# Altium integrated library TI Data Converters Analog to Digital Converter.IntLib: 2197 symbols (part 7 of 168)
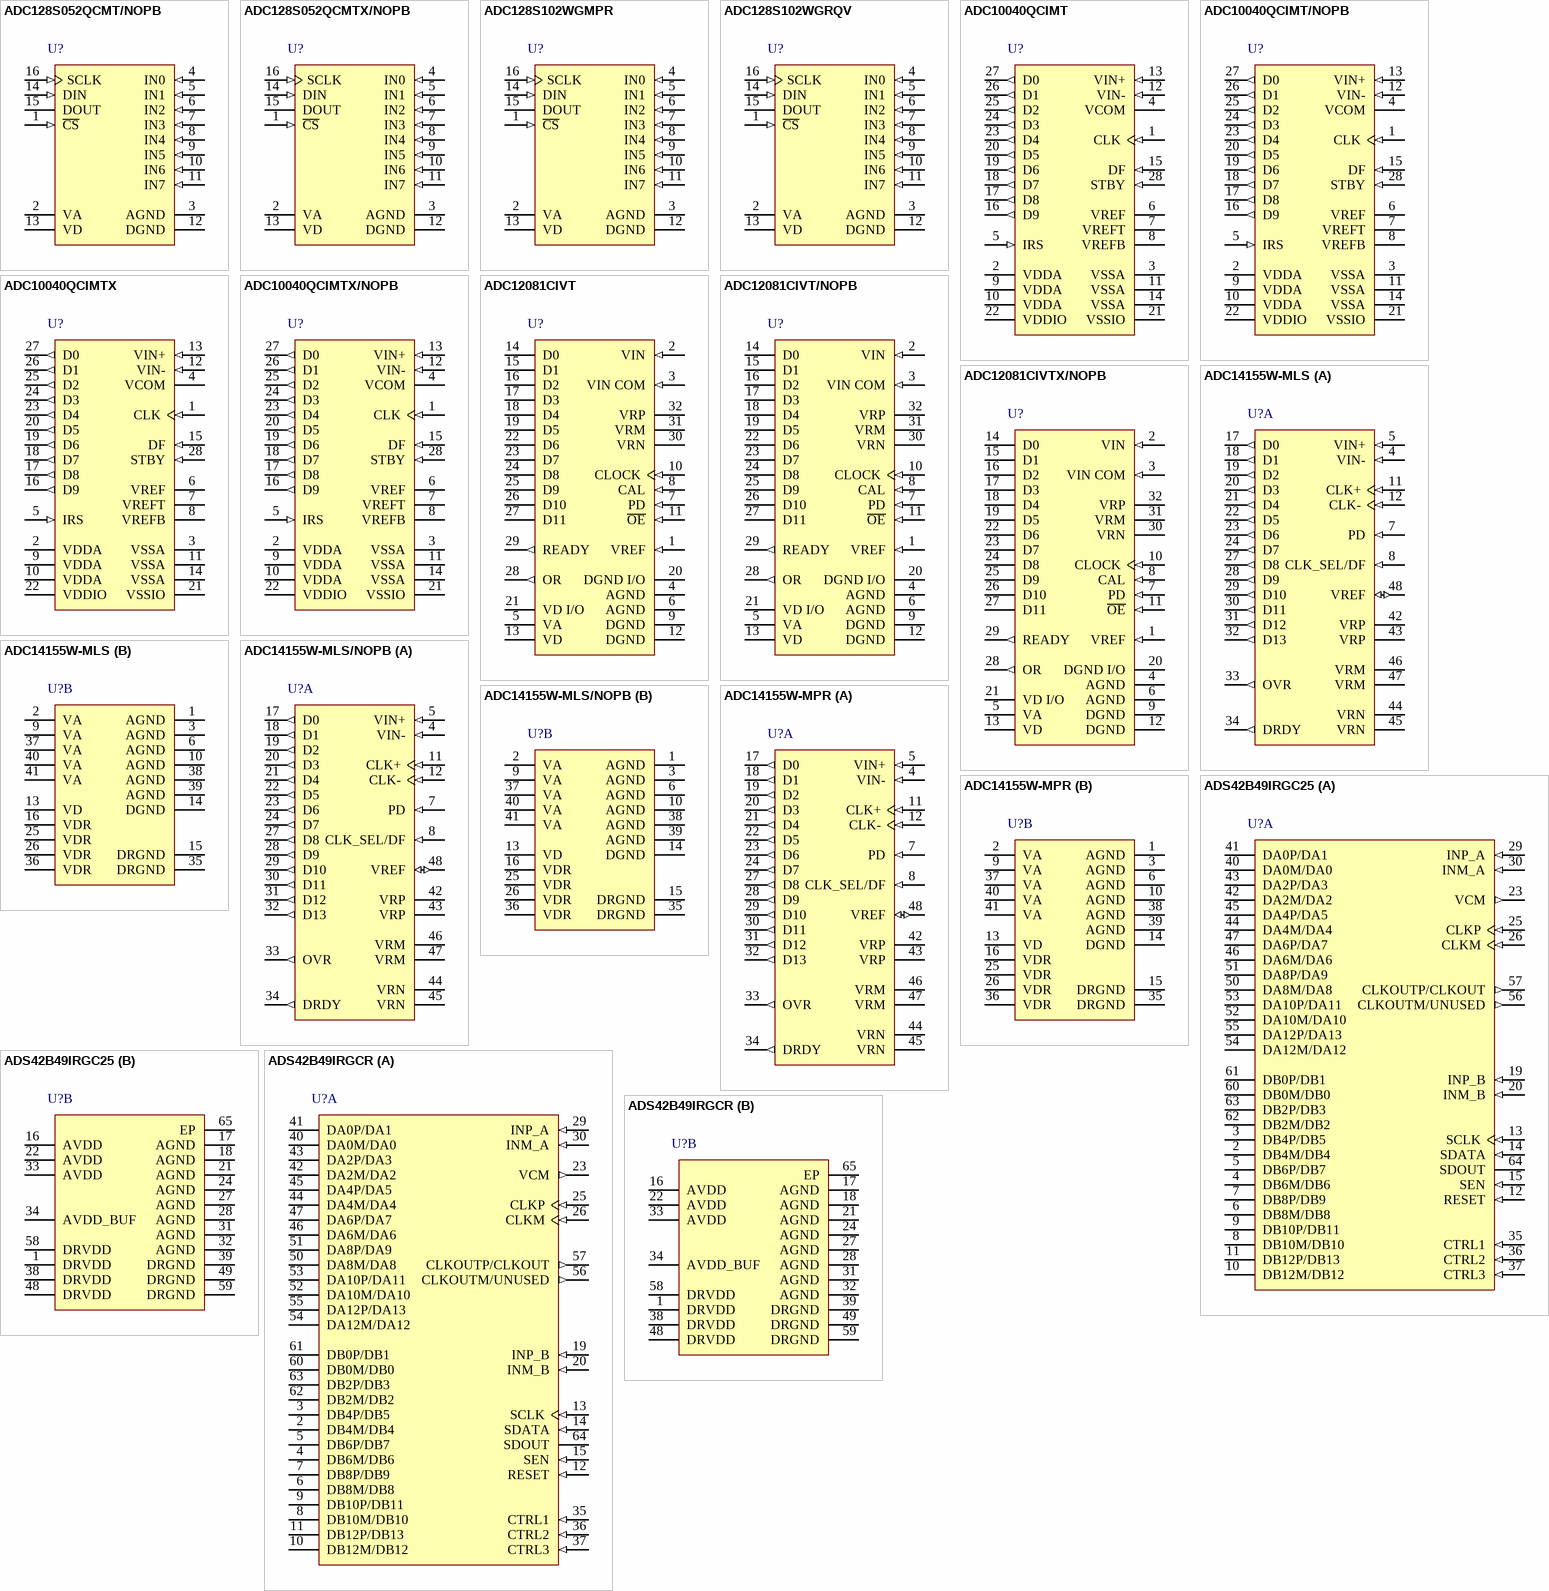
[diagram p132: symbols ADC128S052QCMT/NOPB to ADS42B49IRGCR]

## ADC10040QCIMT
designator U?
10-Bit, 40 MSPS, 3 V, 55.5 mW ADC, -40 to 85 degC, 28-pin SOP (PW28); Manufacturer: Texas Instruments; PartNumber: ADC10040QCIMT; # Input Channels: 1; Analog Voltage AV/DD(Max)(V): 3.6; Analog Voltage AV/DD(Min)(V): 2.7; Architecture: Pipeline; Digital Supply(Min)(V): 2.5; ENOB(Bits): 9.6; Resolution(Bits): 10; Sample Rate(max)(SPS): 40M; SFDR(dB): 80; SINAD(dB): 59.4; SNR(dB): 59.5; SubFamily: High Speed ADC (>10MSPS); DatasheetVersion: SNAS224M; PackageVersion: 4040064-7/G, 02/2011; PackageReference: PW28; PackageDescription: 28-Pin Plastic Small Outline, Body 9.7 x 4.4 mm, Pitch 0.65 mm; Supplier 1: Digi-Key; Supplier Part Number 1: ADS7868IDBVTG4-ND; Supplier 2: Farnell; Supplier Part Number 2: 1329579; Supplier 3: Newark; Supplier Part Number 3: 61M4826; Supplier 4: Mouser; Supplier Part Number 4: 595-ADS7868IDBVTG4; Digital Supply(Max)(V): 3.6; INL(Max)(+/-LSB): 1; Mounting Technology: Surface Mount; Code_JEDEC: MO-153; ComponentLink1Description: Manufacturer URL; ComponentLink1URL: http://www.ti.com/; ComponentLink2Description: Datasheet; ComponentLink2URL: http://www.ti.com/lit/ds/symlink/adc10040-q1.pdf; ComponentLink3Description: Package Specification; ComponentLink3URL: http://www.ti.com/litv/pdf/mpds364
footprint TI-PW28_N (SOP, 28-Leads, Body 9.7x4.4mm, Pitch 0.65mm, IPC Medium Density)
footprint TI-PW28_L (SOP, 28-Leads, Body 9.7x4.4mm, Pitch 0.65mm, IPC High Density)
footprint TI-PW28_M (SOP, 28-Leads, Body 9.7x4.4mm, Pitch 0.65mm, IPC Low Density)
pins: 1 CLK (in) "Digital clock input. The range of frequencies for this input is 20 MHz to 40 MHz. The input is sampled on the rising edge of this input.", 2 VDDA (power) "Positive analog supply pins. These pins should be connected to a quiet 3,0V source and bypassed to analog ground with a 0.1 uf monolithic capacitor located within 1 cm of these pins. A 4.7 uF capacitor should also be used in (See Datasheet)", 3 VSSA (power) "Ground return for the analog supply.", 4 VCOM "These pins are high impedance reference bypass pins only. Connect a 0.1 uF capacitor from each of these pins to VSSA. These pins should not be loaded. VCOM may be used to set the input common mode voltage VCM.", 5 IRS (in) "IRS = “VDDA” 2.0 VP-P input range. IRS = “VSSA” 1.5 VP-P input range. IRS = “Floating” 1.0 VP-P input range. If using both VIN+ and VIN- pins, (or differential mode), then the peak-to-peak voltage re(See Datasheet)", 6 VREF "Reference Voltage. This device provides an internal 1.2V reference. This pin should be bypassed to VSSA with a 0.1 uF monolithic capacitor. VREF is 1.20V nominal. This pin may be driven by a 1.20V external reference if (See Datasheet)", 7 VREFT "These pins are high impedance reference bypass pins only. Connect a 0.1 uF capacitor from each of these pins to VSSA. These pins should not be loaded. VCOM may be used to set the input common mode voltage VCM.", 8 VREFB "These pins are high impedance reference bypass pins only. Connect a 0.1 uF capacitor from each of these pins to VSSA. These pins should not be loaded. VCOM may be used to set the input common mode voltage VCM.", 9 VDDA (power) "Positive analog supply pins. These pins should be connected to a quiet 3,0V source and bypassed to analog ground with a 0.1 uf monolithic capacitor located within 1 cm of these pins. A 4.7 uF capacitor should also be used in (See Datasheet)", 10 VDDA (power) "Positive analog supply pins. These pins should be connected to a quiet 3,0V source and bypassed to analog ground with a 0.1 uf monolithic capacitor located within 1 cm of these pins. A 4.7 uF capacitor should also be used in (See Datasheet)", 11 VSSA (power) "Ground return for the analog supply.", 12 VIN- (in) "Inverting analog input signal. With a 1.2V reference the full-scale input signal level is a differential 1.0 VP-P. This pin may be tied to VCOM (pin 4) for single-ended operation.", 13 VIN+ (in) "Non-inverting analog input signal. With a 1.2V reference the fullscale input signal level is a differential 1.0 VP-P.", 14 VSSA (power) "Ground return for the analog supply.", 15 DF (in) "DF = “1” Two’s Complement DF = “0” Offset Binary", 16 D9 (out) "Digital output data. D0 is the LSB and D9 is the MSB of the binary output word.", 17 D8 (out) "Digital output data. D0 is the LSB and D9 is the MSB of the binary output word.", 18 D7 (out) "Digital output data. D0 is the LSB and D9 is the MSB of the binary output word.", 19 D6 (out) "Digital output data. D0 is the LSB and D9 is the MSB of the binary output word.", 20 D5 (out) "Digital output data. D0 is the LSB and D9 is the MSB of the binary output word.", 21 VSSIO (power) "The ground return for the digital supply for the output drivers. This pin should be connected to the ground plane, but not near the analog circuitry.", 22 VDDIO (power) "Positive digital supply pins for the ADC10040’s output drivers. This pin should be bypassed to digital ground with a 0.1 uF monolithic capacitor located within 1 cm of this pin. A 4.7 uF capacitor should also be used i(See Datasheet)", 23 D4 (out) "Digital output data. D0 is the LSB and D9 is the MSB of the binary output word.", 24 D3 (out) "Digital output data. D0 is the LSB and D9 is the MSB of the binary output word.", 25 D2 (out) "Digital output data. D0 is the LSB and D9 is the MSB of the binary output word.", 26 D1 (out) "Digital output data. D0 is the LSB and D9 is the MSB of the binary output word.", 27 D0 (out) "Digital output data. D0 is the LSB and D9 is the MSB of the binary output word.", 28 STBY (in) "This is the standby pin. When high, this pin sets the converter into standby mode. When this pin is low, the converter is in active mode."

## ADC10040QCIMT/NOPB
designator U?
10-Bit, 40 MSPS, 3 V, 55.5 mW ADC, -40 to 85 degC, 28-pin SOP (PW28), Green (RoHS & no Sb/Br); Manufacturer: Texas Instruments; PartNumber: ADC10040QCIMT/NOPB; # Input Channels: 1; Analog Voltage AV/DD(Max)(V): 3.6; Analog Voltage AV/DD(Min)(V): 2.7; Architecture: Pipeline; Digital Supply(Min)(V): 2.5; ENOB(Bits): 9.6; Resolution(Bits): 10; Sample Rate(max)(SPS): 40M; SFDR(dB): 80; SINAD(dB): 59.4; SNR(dB): 59.5; SubFamily: High Speed ADC (>10MSPS); DatasheetVersion: SNAS224M; PackageVersion: 4040064-7/G, 02/2011; PackageReference: PW28; PackageDescription: 28-Pin Plastic Small Outline, Body 9.7 x 4.4 mm, Pitch 0.65 mm; Supplier 1: Digi-Key; Supplier Part Number 1: ADS7867IDBVR-ND; Supplier 2: Newark; Supplier Part Number 2: 43K2916; Supplier 3: Mouser; Supplier Part Number 3: 595-ADS7867IDBVR; Digital Supply(Max)(V): 3.6; Eco-Plan: Green (RoHS & no Sb/Br); INL(Max)(+/-LSB): 1; Mounting Technology: Surface Mount; Code_JEDEC: MO-153; ComponentLink1Description: Manufacturer URL; ComponentLink1URL: http://www.ti.com/; ComponentLink2Description: Datasheet; ComponentLink2URL: http://www.ti.com/lit/ds/symlink/adc10040-q1.pdf; ComponentLink3Description: Package Specification; ComponentLink3URL: http://www.ti.com/litv/pdf/mpds364
footprint TI-PW28_N (SOP, 28-Leads, Body 9.7x4.4mm, Pitch 0.65mm, IPC Medium Density)
footprint TI-PW28_L (SOP, 28-Leads, Body 9.7x4.4mm, Pitch 0.65mm, IPC High Density)
footprint TI-PW28_M (SOP, 28-Leads, Body 9.7x4.4mm, Pitch 0.65mm, IPC Low Density)
pins: 1 CLK (in) "Digital clock input. The range of frequencies for this input is 20 MHz to 40 MHz. The input is sampled on the rising edge of this input.", 2 VDDA (power) "Positive analog supply pins. These pins should be connected to a quiet 3,0V source and bypassed to analog ground with a 0.1 uf monolithic capacitor located within 1 cm of these pins. A 4.7 uF capacitor should also be used in (See Datasheet)", 3 VSSA (power) "Ground return for the analog supply.", 4 VCOM "These pins are high impedance reference bypass pins only. Connect a 0.1 uF capacitor from each of these pins to VSSA. These pins should not be loaded. VCOM may be used to set the input common mode voltage VCM.", 5 IRS (in) "IRS = “VDDA” 2.0 VP-P input range. IRS = “VSSA” 1.5 VP-P input range. IRS = “Floating” 1.0 VP-P input range. If using both VIN+ and VIN- pins, (or differential mode), then the peak-to-peak voltage re(See Datasheet)", 6 VREF "Reference Voltage. This device provides an internal 1.2V reference. This pin should be bypassed to VSSA with a 0.1 uF monolithic capacitor. VREF is 1.20V nominal. This pin may be driven by a 1.20V external reference if (See Datasheet)", 7 VREFT "These pins are high impedance reference bypass pins only. Connect a 0.1 uF capacitor from each of these pins to VSSA. These pins should not be loaded. VCOM may be used to set the input common mode voltage VCM.", 8 VREFB "These pins are high impedance reference bypass pins only. Connect a 0.1 uF capacitor from each of these pins to VSSA. These pins should not be loaded. VCOM may be used to set the input common mode voltage VCM.", 9 VDDA (power) "Positive analog supply pins. These pins should be connected to a quiet 3,0V source and bypassed to analog ground with a 0.1 uf monolithic capacitor located within 1 cm of these pins. A 4.7 uF capacitor should also be used in (See Datasheet)", 10 VDDA (power) "Positive analog supply pins. These pins should be connected to a quiet 3,0V source and bypassed to analog ground with a 0.1 uf monolithic capacitor located within 1 cm of these pins. A 4.7 uF capacitor should also be used in (See Datasheet)", 11 VSSA (power) "Ground return for the analog supply.", 12 VIN- (in) "Inverting analog input signal. With a 1.2V reference the full-scale input signal level is a differential 1.0 VP-P. This pin may be tied to VCOM (pin 4) for single-ended operation.", 13 VIN+ (in) "Non-inverting analog input signal. With a 1.2V reference the fullscale input signal level is a differential 1.0 VP-P.", 14 VSSA (power) "Ground return for the analog supply.", 15 DF (in) "DF = “1” Two’s Complement DF = “0” Offset Binary", 16 D9 (out) "Digital output data. D0 is the LSB and D9 is the MSB of the binary output word.", 17 D8 (out) "Digital output data. D0 is the LSB and D9 is the MSB of the binary output word.", 18 D7 (out) "Digital output data. D0 is the LSB and D9 is the MSB of the binary output word.", 19 D6 (out) "Digital output data. D0 is the LSB and D9 is the MSB of the binary output word.", 20 D5 (out) "Digital output data. D0 is the LSB and D9 is the MSB of the binary output word.", 21 VSSIO (power) "The ground return for the digital supply for the output drivers. This pin should be connected to the ground plane, but not near the analog circuitry.", 22 VDDIO (power) "Positive digital supply pins for the ADC10040’s output drivers. This pin should be bypassed to digital ground with a 0.1 uF monolithic capacitor located within 1 cm of this pin. A 4.7 uF capacitor should also be used i(See Datasheet)", 23 D4 (out) "Digital output data. D0 is the LSB and D9 is the MSB of the binary output word.", 24 D3 (out) "Digital output data. D0 is the LSB and D9 is the MSB of the binary output word.", 25 D2 (out) "Digital output data. D0 is the LSB and D9 is the MSB of the binary output word.", 26 D1 (out) "Digital output data. D0 is the LSB and D9 is the MSB of the binary output word.", 27 D0 (out) "Digital output data. D0 is the LSB and D9 is the MSB of the binary output word.", 28 STBY (in) "This is the standby pin. When high, this pin sets the converter into standby mode. When this pin is low, the converter is in active mode."

## ADC10040QCIMTX
designator U?
10-Bit, 40 MSPS, 3 V, 55.5 mW ADC, -40 to 85 degC, 28-pin SOP (PW28); Manufacturer: Texas Instruments; PartNumber: ADC10040QCIMTX; # Input Channels: 1; Analog Voltage AV/DD(Max)(V): 3.6; Analog Voltage AV/DD(Min)(V): 2.7; Architecture: Pipeline; Digital Supply(Min)(V): 2.5; ENOB(Bits): 9.6; Resolution(Bits): 10; Sample Rate(max)(SPS): 40M; SFDR(dB): 80; SINAD(dB): 59.4; SNR(dB): 59.5; SubFamily: High Speed ADC (>10MSPS); DatasheetVersion: SNAS224M; PackageVersion: 4040064-7/G, 02/2011; PackageReference: PW28; PackageDescription: 28-Pin Plastic Small Outline, Body 9.7 x 4.4 mm, Pitch 0.65 mm; Supplier 1: Digi-Key; Supplier Part Number 1: ADS7867IDBVRG4-ND; Supplier 2: Newark; Supplier Part Number 2: 53K9152; Supplier 3: Mouser; Supplier Part Number 3: 595-ADS7867IDBVRG4; Digital Supply(Max)(V): 3.6; INL(Max)(+/-LSB): 1; Mounting Technology: Surface Mount; Code_JEDEC: MO-153; ComponentLink1Description: Manufacturer URL; ComponentLink1URL: http://www.ti.com/; ComponentLink2Description: Datasheet; ComponentLink2URL: http://www.ti.com/lit/ds/symlink/adc10040-q1.pdf; ComponentLink3Description: Package Specification; ComponentLink3URL: http://www.ti.com/litv/pdf/mpds364
footprint TI-PW28_N (SOP, 28-Leads, Body 9.7x4.4mm, Pitch 0.65mm, IPC Medium Density)
footprint TI-PW28_L (SOP, 28-Leads, Body 9.7x4.4mm, Pitch 0.65mm, IPC High Density)
footprint TI-PW28_M (SOP, 28-Leads, Body 9.7x4.4mm, Pitch 0.65mm, IPC Low Density)
pins: 1 CLK (in) "Digital clock input. The range of frequencies for this input is 20 MHz to 40 MHz. The input is sampled on the rising edge of this input.", 2 VDDA (power) "Positive analog supply pins. These pins should be connected to a quiet 3,0V source and bypassed to analog ground with a 0.1 uf monolithic capacitor located within 1 cm of these pins. A 4.7 uF capacitor should also be used in (See Datasheet)", 3 VSSA (power) "Ground return for the analog supply.", 4 VCOM "These pins are high impedance reference bypass pins only. Connect a 0.1 uF capacitor from each of these pins to VSSA. These pins should not be loaded. VCOM may be used to set the input common mode voltage VCM.", 5 IRS (in) "IRS = “VDDA” 2.0 VP-P input range. IRS = “VSSA” 1.5 VP-P input range. IRS = “Floating” 1.0 VP-P input range. If using both VIN+ and VIN- pins, (or differential mode), then the peak-to-peak voltage re(See Datasheet)", 6 VREF "Reference Voltage. This device provides an internal 1.2V reference. This pin should be bypassed to VSSA with a 0.1 uF monolithic capacitor. VREF is 1.20V nominal. This pin may be driven by a 1.20V external reference if (See Datasheet)", 7 VREFT "These pins are high impedance reference bypass pins only. Connect a 0.1 uF capacitor from each of these pins to VSSA. These pins should not be loaded. VCOM may be used to set the input common mode voltage VCM.", 8 VREFB "These pins are high impedance reference bypass pins only. Connect a 0.1 uF capacitor from each of these pins to VSSA. These pins should not be loaded. VCOM may be used to set the input common mode voltage VCM.", 9 VDDA (power) "Positive analog supply pins. These pins should be connected to a quiet 3,0V source and bypassed to analog ground with a 0.1 uf monolithic capacitor located within 1 cm of these pins. A 4.7 uF capacitor should also be used in (See Datasheet)", 10 VDDA (power) "Positive analog supply pins. These pins should be connected to a quiet 3,0V source and bypassed to analog ground with a 0.1 uf monolithic capacitor located within 1 cm of these pins. A 4.7 uF capacitor should also be used in (See Datasheet)", 11 VSSA (power) "Ground return for the analog supply.", 12 VIN- (in) "Inverting analog input signal. With a 1.2V reference the full-scale input signal level is a differential 1.0 VP-P. This pin may be tied to VCOM (pin 4) for single-ended operation.", 13 VIN+ (in) "Non-inverting analog input signal. With a 1.2V reference the fullscale input signal level is a differential 1.0 VP-P.", 14 VSSA (power) "Ground return for the analog supply.", 15 DF (in) "DF = “1” Two’s Complement DF = “0” Offset Binary", 16 D9 (out) "Digital output data. D0 is the LSB and D9 is the MSB of the binary output word.", 17 D8 (out) "Digital output data. D0 is the LSB and D9 is the MSB of the binary output word.", 18 D7 (out) "Digital output data. D0 is the LSB and D9 is the MSB of the binary output word.", 19 D6 (out) "Digital output data. D0 is the LSB and D9 is the MSB of the binary output word.", 20 D5 (out) "Digital output data. D0 is the LSB and D9 is the MSB of the binary output word.", 21 VSSIO (power) "The ground return for the digital supply for the output drivers. This pin should be connected to the ground plane, but not near the analog circuitry.", 22 VDDIO (power) "Positive digital supply pins for the ADC10040’s output drivers. This pin should be bypassed to digital ground with a 0.1 uF monolithic capacitor located within 1 cm of this pin. A 4.7 uF capacitor should also be used i(See Datasheet)", 23 D4 (out) "Digital output data. D0 is the LSB and D9 is the MSB of the binary output word.", 24 D3 (out) "Digital output data. D0 is the LSB and D9 is the MSB of the binary output word.", 25 D2 (out) "Digital output data. D0 is the LSB and D9 is the MSB of the binary output word.", 26 D1 (out) "Digital output data. D0 is the LSB and D9 is the MSB of the binary output word.", 27 D0 (out) "Digital output data. D0 is the LSB and D9 is the MSB of the binary output word.", 28 STBY (in) "This is the standby pin. When high, this pin sets the converter into standby mode. When this pin is low, the converter is in active mode."

## ADC10040QCIMTX/NOPB
designator U?
10-Bit, 40 MSPS, 3 V, 55.5 mW ADC, -40 to 85 degC, 28-pin SOP (PW28), Green (RoHS & no Sb/Br); Manufacturer: Texas Instruments; PartNumber: ADC10040QCIMTX/NOPB; # Input Channels: 1; Analog Voltage AV/DD(Max)(V): 3.6; Analog Voltage AV/DD(Min)(V): 2.7; Architecture: Pipeline; Digital Supply(Min)(V): 2.5; ENOB(Bits): 9.6; Resolution(Bits): 10; Sample Rate(max)(SPS): 40M; SFDR(dB): 80; SINAD(dB): 59.4; SNR(dB): 59.5; SubFamily: High Speed ADC (>10MSPS); DatasheetVersion: SNAS224M; PackageVersion: 4040064-7/G, 02/2011; PackageReference: PW28; PackageDescription: 28-Pin Plastic Small Outline, Body 9.7 x 4.4 mm, Pitch 0.65 mm; Supplier 1: Digi-Key; Supplier Part Number 1: 296-18217-2-ND; Supplier 2: Digi-Key; Supplier Part Number 2: 296-18217-1-ND; Supplier 3: Digi-Key; Supplier Part Number 3: 296-18217-6-ND; Supplier 4: Newark; Supplier Part Number 4: 43K2917; Supplier 5: Mouser; Supplier Part Number 5: 595-ADS7867IDBVT; Digital Supply(Max)(V): 3.6; Eco-Plan: Green (RoHS & no Sb/Br); INL(Max)(+/-LSB): 1; Mounting Technology: Surface Mount; Code_JEDEC: MO-153; ComponentLink1Description: Manufacturer URL; ComponentLink1URL: http://www.ti.com/; ComponentLink2Description: Datasheet; ComponentLink2URL: http://www.ti.com/lit/ds/symlink/adc10040-q1.pdf; ComponentLink3Description: Package Specification; ComponentLink3URL: http://www.ti.com/litv/pdf/mpds364
footprint TI-PW28_N (SOP, 28-Leads, Body 9.7x4.4mm, Pitch 0.65mm, IPC Medium Density)
footprint TI-PW28_L (SOP, 28-Leads, Body 9.7x4.4mm, Pitch 0.65mm, IPC High Density)
footprint TI-PW28_M (SOP, 28-Leads, Body 9.7x4.4mm, Pitch 0.65mm, IPC Low Density)
pins: 1 CLK (in) "Digital clock input. The range of frequencies for this input is 20 MHz to 40 MHz. The input is sampled on the rising edge of this input.", 2 VDDA (power) "Positive analog supply pins. These pins should be connected to a quiet 3,0V source and bypassed to analog ground with a 0.1 uf monolithic capacitor located within 1 cm of these pins. A 4.7 uF capacitor should also be used in (See Datasheet)", 3 VSSA (power) "Ground return for the analog supply.", 4 VCOM "These pins are high impedance reference bypass pins only. Connect a 0.1 uF capacitor from each of these pins to VSSA. These pins should not be loaded. VCOM may be used to set the input common mode voltage VCM.", 5 IRS (in) "IRS = “VDDA” 2.0 VP-P input range. IRS = “VSSA” 1.5 VP-P input range. IRS = “Floating” 1.0 VP-P input range. If using both VIN+ and VIN- pins, (or differential mode), then the peak-to-peak voltage re(See Datasheet)", 6 VREF "Reference Voltage. This device provides an internal 1.2V reference. This pin should be bypassed to VSSA with a 0.1 uF monolithic capacitor. VREF is 1.20V nominal. This pin may be driven by a 1.20V external reference if (See Datasheet)", 7 VREFT "These pins are high impedance reference bypass pins only. Connect a 0.1 uF capacitor from each of these pins to VSSA. These pins should not be loaded. VCOM may be used to set the input common mode voltage VCM.", 8 VREFB "These pins are high impedance reference bypass pins only. Connect a 0.1 uF capacitor from each of these pins to VSSA. These pins should not be loaded. VCOM may be used to set the input common mode voltage VCM.", 9 VDDA (power) "Positive analog supply pins. These pins should be connected to a quiet 3,0V source and bypassed to analog ground with a 0.1 uf monolithic capacitor located within 1 cm of these pins. A 4.7 uF capacitor should also be used in (See Datasheet)", 10 VDDA (power) "Positive analog supply pins. These pins should be connected to a quiet 3,0V source and bypassed to analog ground with a 0.1 uf monolithic capacitor located within 1 cm of these pins. A 4.7 uF capacitor should also be used in (See Datasheet)", 11 VSSA (power) "Ground return for the analog supply.", 12 VIN- (in) "Inverting analog input signal. With a 1.2V reference the full-scale input signal level is a differential 1.0 VP-P. This pin may be tied to VCOM (pin 4) for single-ended operation.", 13 VIN+ (in) "Non-inverting analog input signal. With a 1.2V reference the fullscale input signal level is a differential 1.0 VP-P.", 14 VSSA (power) "Ground return for the analog supply.", 15 DF (in) "DF = “1” Two’s Complement DF = “0” Offset Binary", 16 D9 (out) "Digital output data. D0 is the LSB and D9 is the MSB of the binary output word.", 17 D8 (out) "Digital output data. D0 is the LSB and D9 is the MSB of the binary output word.", 18 D7 (out) "Digital output data. D0 is the LSB and D9 is the MSB of the binary output word.", 19 D6 (out) "Digital output data. D0 is the LSB and D9 is the MSB of the binary output word.", 20 D5 (out) "Digital output data. D0 is the LSB and D9 is the MSB of the binary output word.", 21 VSSIO (power) "The ground return for the digital supply for the output drivers. This pin should be connected to the ground plane, but not near the analog circuitry.", 22 VDDIO (power) "Positive digital supply pins for the ADC10040’s output drivers. This pin should be bypassed to digital ground with a 0.1 uF monolithic capacitor located within 1 cm of this pin. A 4.7 uF capacitor should also be used i(See Datasheet)", 23 D4 (out) "Digital output data. D0 is the LSB and D9 is the MSB of the binary output word.", 24 D3 (out) "Digital output data. D0 is the LSB and D9 is the MSB of the binary output word.", 25 D2 (out) "Digital output data. D0 is the LSB and D9 is the MSB of the binary output word.", 26 D1 (out) "Digital output data. D0 is the LSB and D9 is the MSB of the binary output word.", 27 D0 (out) "Digital output data. D0 is the LSB and D9 is the MSB of the binary output word.", 28 STBY (in) "This is the standby pin. When high, this pin sets the converter into standby mode. When this pin is low, the converter is in active mode."

## ADC12081CIVT
designator U?
12-Bit, 5 MHz Self-Calibrating, Pipelined ADC with Internal Sample & Hold, -20 to 75 degC, 32-pin LQFP (NEY32); Manufacturer: Texas Instruments; PartNumber: ADC12081CIVT; # Input Channels: 1; Analog Voltage AV/DD(Max)(V): 5.25; Analog Voltage AV/DD(Min)(V): 4.75; ENOB(Bits): 10.9; INL(Max)(+/-LSB): 1.7; Resolution(Bits): 12; Sample Rate(max)(SPS): 5M; SFDR(dB): 79; SINAD(dB): 67.6; SNR(dB): 68; SubFamily: Precision ADC (<=10MSPS); DatasheetVersion: SNAS020D; PackageVersion: Rev. F, 02/2013; PackageReference: NEY32; PackageDescription: 32-Pin Plastic Flat Pack, Body 7 x 7 mm, Pitch 0.8 mm; Supplier 1: Digi-Key; Supplier Part Number 1: ADS7867IDBVTG4-ND; Supplier 2: Newark; Supplier Part Number 2: 53K9153; Supplier 3: Mouser; Supplier Part Number 3: 595-ADS7867IDBVTG4; Architecture: Pipeline; Mounting Technology: Surface Mount; ComponentLink1Description: Manufacturer URL; ComponentLink1URL: http://www.ti.com/; ComponentLink2Description: Datasheet; ComponentLink2URL: http://www.ti.com/lit/ds/symlink/adc12081.pdf; ComponentLink3Description: Package Specification; ComponentLink3URL: http://www.ti.com/litv/pdf/mpqf365
footprint TI-NEY32_N (QFP, 32-Leads, Body 7x7mm, Pitch 0.8mm, IPC Medium Density)
footprint TI-NEY32_L (QFP, 32-Leads, Body 7x7mm, Pitch 0.8mm, IPC High Density)
footprint TI-NEY32_M (QFP, 32-Leads, Body 7x7mm, Pitch 0.8mm, IPC Low Density)
pins: 1 VREF (in) "Reference voltage input. This pin should be driven from an accurate, stable reference source in the range of 1.8 to 2.2V and bypassed to a low-noise analog ground with a monolithic ceramic capacitor, nominally 0.01uF.", 2 VIN (in) "Analog signal input. With a 2.0V reference voltage, input signal voltages in the range of 0 to 2.0 Volts will be converted.", 3 VIN COM (in) "Analog input common. Connect to a quiet point in analog ground near the driving device.", 4 AGND (power) "The ground return for the analog supply. AGND and DGND should be connected together close to the ADC12081 package.", 5 VA (power) "Positive analog supply pin. Connect to a clean, quiet voltage source of +5V. VA and VD should have a common supply and be separately bypassed with a 5uF to 10uF capacitor and a 0.1uF chip capacitor.", 6 AGND (power) "The ground return for the analog supply. AGND and DGND should be connected together close to the ADC12081 package.", 7 PD (in) "Power-down, active High, ignored during calibration cycle.", 8 CAL (in) "Calibration request, active High. Calibration cycle starts when CAL returns to logic low. CAL is ignored during powerdown mode.", 9 DGND (power) "The ground return for the analog supply. AGND and DGND should be connected together close to the ADC12081 package.", 10 CLOCK (in) "Sample Clock input, TTL compatible. Maximum amplitude should not exceed 3V.", 11 ~{OE} (in) "Output enable control, active low. When this pin is high the data outputs are in Tri-state (high-impedance) mode.", 12 DGND (power) "The ground return for the analog supply. AGND and DGND should be connected together close to the ADC12081 package.", 13 VD (power) "Positive analog supply pin. Connect to a clean, quiet voltage source of +5V. VA and VD should have a common supply and be separately bypassed with a 5uF to 10uF capacitor and a 0.1 uF chip capacitor.", 14 D0 (hiz) "Digital output word, CMOS compatible. D0 (pin 14) is LSB, D11 (pin 27) is MSB. Load with no more than 50pF.", 15 D1 (hiz) "Digital output word, CMOS compatible. D0 (pin 14) is LSB, D11 (pin 27) is MSB. Load with no more than 50pF.", 16 D2 (hiz) "Digital output word, CMOS compatible. D0 (pin 14) is LSB, D11 (pin 27) is MSB. Load with no more than 50pF.", 17 D3 (hiz) "Digital output word, CMOS compatible. D0 (pin 14) is LSB, D11 (pin 27) is MSB. Load with no more than 50pF.", 18 D4 (hiz) "Digital output word, CMOS compatible. D0 (pin 14) is LSB, D11 (pin 27) is MSB. Load with no more than 50pF.", 19 D5 (hiz) "Digital output word, CMOS compatible. D0 (pin 14) is LSB, D11 (pin 27) is MSB. Load with no more than 50pF.", 20 DGND I/O (power) "The ground return for the output drivers. This pin should be returned to a point in the digital ground that is removed from the other ground pins of the ADC12081.", 21 VD I/O (power) "The digital output driver supply pin. This pin can be operated from a supply voltage of 3V to 5V, but the voltage on this pin should never exceed the VD supply pin voltage.", 22 D6 (hiz) "Digital output word, CMOS compatible. D0 (pin 14) is LSB, D11 (pin 27) is MSB. Load with no more than 50pF.", 23 D7 (hiz) "Digital output word, CMOS compatible. D0 (pin 14) is LSB, D11 (pin 27) is MSB. Load with no more than 50pF.", 24 D8 (hiz) "Digital output word, CMOS compatible. D0 (pin 14) is LSB, D11 (pin 27) is MSB. Load with no more than 50pF.", 25 D9 (hiz) "Digital output word, CMOS compatible. D0 (pin 14) is LSB, D11 (pin 27) is MSB. Load with no more than 50pF.", 26 D10 (hiz) "Digital output word, CMOS compatible. D0 (pin 14) is LSB, D11 (pin 27) is MSB. Load with no more than 50pF.", 27 D11 (hiz) "Digital output word, CMOS compatible. D0 (pin 14) is LSB, D11 (pin 27) is MSB. Load with no more than 50pF.", 28 OR (out) "Over range indicator. This pin is at a logic High for VIN < 0 or for VIN > VREF.", 29 READY (out) "Device ready indicator, active High. This pin is at a logic Low during a calibration cycle and while the device is in the power down mode.", 30 VRN "Negative reverence bypass pin. Bypass with a 0.1uF capacitor. Do not connect anything else to this pin.", 31 VRM "Reference midpoint bypass pin. Bypass with a 0.1uF capacitor. Do not connect anything else to this pin.", 32 VRP "Positive reference bypass pin. Bypass with a 0.1uF capacitor. Do not connect anything else to this pin."

## ADC12081CIVT/NOPB
designator U?
12-Bit, 5 MHz Self-Calibrating, Pipelined ADC with Internal Sample & Hold, -20 to 75 degC, 32-pin LQFP (NEY32), Green (RoHS & no Sb/Br); Manufacturer: Texas Instruments; PartNumber: ADC12081CIVT/NOPB; # Input Channels: 1; Analog Voltage AV/DD(Max)(V): 5.25; Analog Voltage AV/DD(Min)(V): 4.75; ENOB(Bits): 10.9; INL(Max)(+/-LSB): 1.7; Resolution(Bits): 12; Sample Rate(max)(SPS): 5M; SFDR(dB): 79; SINAD(dB): 67.6; SNR(dB): 68; SubFamily: Precision ADC (<=10MSPS); DatasheetVersion: SNAS020D; PackageVersion: Rev. F, 02/2013; PackageReference: NEY32; PackageDescription: 32-Pin Plastic Flat Pack, Body 7 x 7 mm, Pitch 0.8 mm; Supplier 1: Digi-Key; Supplier Part Number 1: ADS7866IDBVR-ND; Supplier 2: Newark; Supplier Part Number 2: 43K2914; Supplier 3: Mouser; Supplier Part Number 3: 595-ADS7866IDBVR; Architecture: Pipeline; Eco-Plan: Green (RoHS & no Sb/Br); Mounting Technology: Surface Mount; ComponentLink1Description: Manufacturer URL; ComponentLink1URL: http://www.ti.com/; ComponentLink2Description: Datasheet; ComponentLink2URL: http://www.ti.com/lit/ds/symlink/adc12081.pdf; ComponentLink3Description: Package Specification; ComponentLink3URL: http://www.ti.com/litv/pdf/mpqf365
footprint TI-NEY32_N (QFP, 32-Leads, Body 7x7mm, Pitch 0.8mm, IPC Medium Density)
footprint TI-NEY32_L (QFP, 32-Leads, Body 7x7mm, Pitch 0.8mm, IPC High Density)
footprint TI-NEY32_M (QFP, 32-Leads, Body 7x7mm, Pitch 0.8mm, IPC Low Density)
pins: 1 VREF (in) "Reference voltage input. This pin should be driven from an accurate, stable reference source in the range of 1.8 to 2.2V and bypassed to a low-noise analog ground with a monolithic ceramic capacitor, nominally 0.01uF.", 2 VIN (in) "Analog signal input. With a 2.0V reference voltage, input signal voltages in the range of 0 to 2.0 Volts will be converted.", 3 VIN COM (in) "Analog input common. Connect to a quiet point in analog ground near the driving device.", 4 AGND (power) "The ground return for the analog supply. AGND and DGND should be connected together close to the ADC12081 package.", 5 VA (power) "Positive analog supply pin. Connect to a clean, quiet voltage source of +5V. VA and VD should have a common supply and be separately bypassed with a 5uF to 10uF capacitor and a 0.1uF chip capacitor.", 6 AGND (power) "The ground return for the analog supply. AGND and DGND should be connected together close to the ADC12081 package.", 7 PD (in) "Power-down, active High, ignored during calibration cycle.", 8 CAL (in) "Calibration request, active High. Calibration cycle starts when CAL returns to logic low. CAL is ignored during powerdown mode.", 9 DGND (power) "The ground return for the analog supply. AGND and DGND should be connected together close to the ADC12081 package.", 10 CLOCK (in) "Sample Clock input, TTL compatible. Maximum amplitude should not exceed 3V.", 11 ~{OE} (in) "Output enable control, active low. When this pin is high the data outputs are in Tri-state (high-impedance) mode.", 12 DGND (power) "The ground return for the analog supply. AGND and DGND should be connected together close to the ADC12081 package.", 13 VD (power) "Positive analog supply pin. Connect to a clean, quiet voltage source of +5V. VA and VD should have a common supply and be separately bypassed with a 5uF to 10uF capacitor and a 0.1 uF chip capacitor.", 14 D0 (hiz) "Digital output word, CMOS compatible. D0 (pin 14) is LSB, D11 (pin 27) is MSB. Load with no more than 50pF.", 15 D1 (hiz) "Digital output word, CMOS compatible. D0 (pin 14) is LSB, D11 (pin 27) is MSB. Load with no more than 50pF.", 16 D2 (hiz) "Digital output word, CMOS compatible. D0 (pin 14) is LSB, D11 (pin 27) is MSB. Load with no more than 50pF.", 17 D3 (hiz) "Digital output word, CMOS compatible. D0 (pin 14) is LSB, D11 (pin 27) is MSB. Load with no more than 50pF.", 18 D4 (hiz) "Digital output word, CMOS compatible. D0 (pin 14) is LSB, D11 (pin 27) is MSB. Load with no more than 50pF.", 19 D5 (hiz) "Digital output word, CMOS compatible. D0 (pin 14) is LSB, D11 (pin 27) is MSB. Load with no more than 50pF.", 20 DGND I/O (power) "The ground return for the output drivers. This pin should be returned to a point in the digital ground that is removed from the other ground pins of the ADC12081.", 21 VD I/O (power) "The digital output driver supply pin. This pin can be operated from a supply voltage of 3V to 5V, but the voltage on this pin should never exceed the VD supply pin voltage.", 22 D6 (hiz) "Digital output word, CMOS compatible. D0 (pin 14) is LSB, D11 (pin 27) is MSB. Load with no more than 50pF.", 23 D7 (hiz) "Digital output word, CMOS compatible. D0 (pin 14) is LSB, D11 (pin 27) is MSB. Load with no more than 50pF.", 24 D8 (hiz) "Digital output word, CMOS compatible. D0 (pin 14) is LSB, D11 (pin 27) is MSB. Load with no more than 50pF.", 25 D9 (hiz) "Digital output word, CMOS compatible. D0 (pin 14) is LSB, D11 (pin 27) is MSB. Load with no more than 50pF.", 26 D10 (hiz) "Digital output word, CMOS compatible. D0 (pin 14) is LSB, D11 (pin 27) is MSB. Load with no more than 50pF.", 27 D11 (hiz) "Digital output word, CMOS compatible. D0 (pin 14) is LSB, D11 (pin 27) is MSB. Load with no more than 50pF.", 28 OR (out) "Over range indicator. This pin is at a logic High for VIN < 0 or for VIN > VREF.", 29 READY (out) "Device ready indicator, active High. This pin is at a logic Low during a calibration cycle and while the device is in the power down mode.", 30 VRN "Negative reverence bypass pin. Bypass with a 0.1uF capacitor. Do not connect anything else to this pin.", 31 VRM "Reference midpoint bypass pin. Bypass with a 0.1uF capacitor. Do not connect anything else to this pin.", 32 VRP "Positive reference bypass pin. Bypass with a 0.1uF capacitor. Do not connect anything else to this pin."

## ADC12081CIVTX/NOPB
designator U?
12-Bit, 5 MHz Self-Calibrating, Pipelined ADC with Internal Sample & Hold, -20 to 75 degC, 32-pin LQFP (NEY32), Green (RoHS & no Sb/Br); Manufacturer: Texas Instruments; PartNumber: ADC12081CIVTX/NOPB; # Input Channels: 1; Analog Voltage AV/DD(Max)(V): 5.25; Analog Voltage AV/DD(Min)(V): 4.75; ENOB(Bits): 10.9; INL(Max)(+/-LSB): 1.7; Resolution(Bits): 12; Sample Rate(max)(SPS): 5M; SFDR(dB): 79; SINAD(dB): 67.6; SNR(dB): 68; SubFamily: Precision ADC (<=10MSPS); DatasheetVersion: SNAS020D; PackageVersion: Rev. F, 02/2013; PackageReference: NEY32; PackageDescription: 32-Pin Plastic Flat Pack, Body 7 x 7 mm, Pitch 0.8 mm; Supplier 1: Digi-Key; Supplier Part Number 1: ADS7866IDBVRG4-ND; Supplier 2: Mouser; Supplier Part Number 2: 595-ADS7866IDBVRG4; Architecture: Pipeline; Eco-Plan: Green (RoHS & no Sb/Br); Mounting Technology: Surface Mount; ComponentLink1Description: Manufacturer URL; ComponentLink1URL: http://www.ti.com/; ComponentLink2Description: Datasheet; ComponentLink2URL: http://www.ti.com/lit/ds/symlink/adc12081.pdf; ComponentLink3Description: Package Specification; ComponentLink3URL: http://www.ti.com/litv/pdf/mpqf365
footprint TI-NEY32_N (QFP, 32-Leads, Body 7x7mm, Pitch 0.8mm, IPC Medium Density)
footprint TI-NEY32_L (QFP, 32-Leads, Body 7x7mm, Pitch 0.8mm, IPC High Density)
footprint TI-NEY32_M (QFP, 32-Leads, Body 7x7mm, Pitch 0.8mm, IPC Low Density)
pins: 1 VREF (in) "Reference voltage input. This pin should be driven from an accurate, stable reference source in the range of 1.8 to 2.2V and bypassed to a low-noise analog ground with a monolithic ceramic capacitor, nominally 0.01uF.", 2 VIN (in) "Analog signal input. With a 2.0V reference voltage, input signal voltages in the range of 0 to 2.0 Volts will be converted.", 3 VIN COM (in) "Analog input common. Connect to a quiet point in analog ground near the driving device.", 4 AGND (power) "The ground return for the analog supply. AGND and DGND should be connected together close to the ADC12081 package.", 5 VA (power) "Positive analog supply pin. Connect to a clean, quiet voltage source of +5V. VA and VD should have a common supply and be separately bypassed with a 5uF to 10uF capacitor and a 0.1uF chip capacitor.", 6 AGND (power) "The ground return for the analog supply. AGND and DGND should be connected together close to the ADC12081 package.", 7 PD (in) "Power-down, active High, ignored during calibration cycle.", 8 CAL (in) "Calibration request, active High. Calibration cycle starts when CAL returns to logic low. CAL is ignored during powerdown mode.", 9 DGND (power) "The ground return for the analog supply. AGND and DGND should be connected together close to the ADC12081 package.", 10 CLOCK (in) "Sample Clock input, TTL compatible. Maximum amplitude should not exceed 3V.", 11 ~{OE} (in) "Output enable control, active low. When this pin is high the data outputs are in Tri-state (high-impedance) mode.", 12 DGND (power) "The ground return for the analog supply. AGND and DGND should be connected together close to the ADC12081 package.", 13 VD (power) "Positive analog supply pin. Connect to a clean, quiet voltage source of +5V. VA and VD should have a common supply and be separately bypassed with a 5uF to 10uF capacitor and a 0.1 uF chip capacitor.", 14 D0 (hiz) "Digital output word, CMOS compatible. D0 (pin 14) is LSB, D11 (pin 27) is MSB. Load with no more than 50pF.", 15 D1 (hiz) "Digital output word, CMOS compatible. D0 (pin 14) is LSB, D11 (pin 27) is MSB. Load with no more than 50pF.", 16 D2 (hiz) "Digital output word, CMOS compatible. D0 (pin 14) is LSB, D11 (pin 27) is MSB. Load with no more than 50pF.", 17 D3 (hiz) "Digital output word, CMOS compatible. D0 (pin 14) is LSB, D11 (pin 27) is MSB. Load with no more than 50pF.", 18 D4 (hiz) "Digital output word, CMOS compatible. D0 (pin 14) is LSB, D11 (pin 27) is MSB. Load with no more than 50pF.", 19 D5 (hiz) "Digital output word, CMOS compatible. D0 (pin 14) is LSB, D11 (pin 27) is MSB. Load with no more than 50pF.", 20 DGND I/O (power) "The ground return for the output drivers. This pin should be returned to a point in the digital ground that is removed from the other ground pins of the ADC12081.", 21 VD I/O (power) "The digital output driver supply pin. This pin can be operated from a supply voltage of 3V to 5V, but the voltage on this pin should never exceed the VD supply pin voltage.", 22 D6 (hiz) "Digital output word, CMOS compatible. D0 (pin 14) is LSB, D11 (pin 27) is MSB. Load with no more than 50pF.", 23 D7 (hiz) "Digital output word, CMOS compatible. D0 (pin 14) is LSB, D11 (pin 27) is MSB. Load with no more than 50pF.", 24 D8 (hiz) "Digital output word, CMOS compatible. D0 (pin 14) is LSB, D11 (pin 27) is MSB. Load with no more than 50pF.", 25 D9 (hiz) "Digital output word, CMOS compatible. D0 (pin 14) is LSB, D11 (pin 27) is MSB. Load with no more than 50pF.", 26 D10 (hiz) "Digital output word, CMOS compatible. D0 (pin 14) is LSB, D11 (pin 27) is MSB. Load with no more than 50pF.", 27 D11 (hiz) "Digital output word, CMOS compatible. D0 (pin 14) is LSB, D11 (pin 27) is MSB. Load with no more than 50pF.", 28 OR (out) "Over range indicator. This pin is at a logic High for VIN < 0 or for VIN > VREF.", 29 READY (out) "Device ready indicator, active High. This pin is at a logic Low during a calibration cycle and while the device is in the power down mode.", 30 VRN "Negative reverence bypass pin. Bypass with a 0.1uF capacitor. Do not connect anything else to this pin.", 31 VRM "Reference midpoint bypass pin. Bypass with a 0.1uF capacitor. Do not connect anything else to this pin.", 32 VRP "Positive reference bypass pin. Bypass with a 0.1uF capacitor. Do not connect anything else to this pin."